# Altium schematic symbol library Schlib1.SchLib: 4 symbols
Pins are listed as number, name and electrical type; pins without a type are passive.

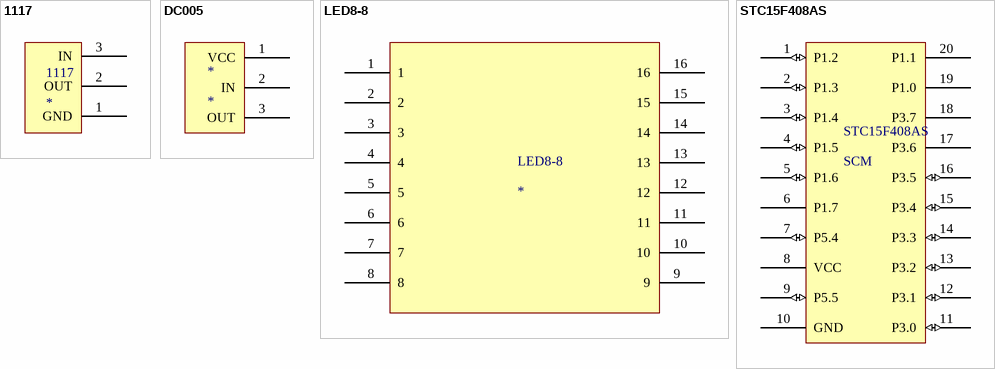
[diagram p0: symbols 1117 to STC15F408AS]

## 1117
designator 1117
footprint 1117
pins: 1 GND, 2 OUT, 3 IN

## DC005
designator *
footprint DC005
pins: 1 VCC, 2 IN, 3 OUT

## LED8-8
designator LED8-8
footprint LED8-8
pins: 1, 2, 3, 4, 5, 6, 7, 8, 9, 10, 11, 12, 13, 14, 15, 16

## STC15F408AS
designator STC15F408AS, comment SCM
footprint DIP16 (Footprint not found)
footprint SOP20
pins: 1 P1.2 (io), 2 P1.3 (io), 3 P1.4 (io), 4 P1.5 (io), 5 P1.6 (io), 6 P1.7, 7 P5.4 (io), 8 VCC, 9 P5.5 (io), 10 GND (power), 11 P3.0 (io), 12 P3.1 (io), 13 P3.2 (io), 14 P3.3 (io), 15 P3.4 (io), 16 P3.5 (io), 17 P3.6, 18 P3.7, 19 P1.0, 20 P1.1